# Altium schematic symbol library MCU.SchLib: 4 symbols
Pins are listed as number, name and electrical type; pins without a type are passive.

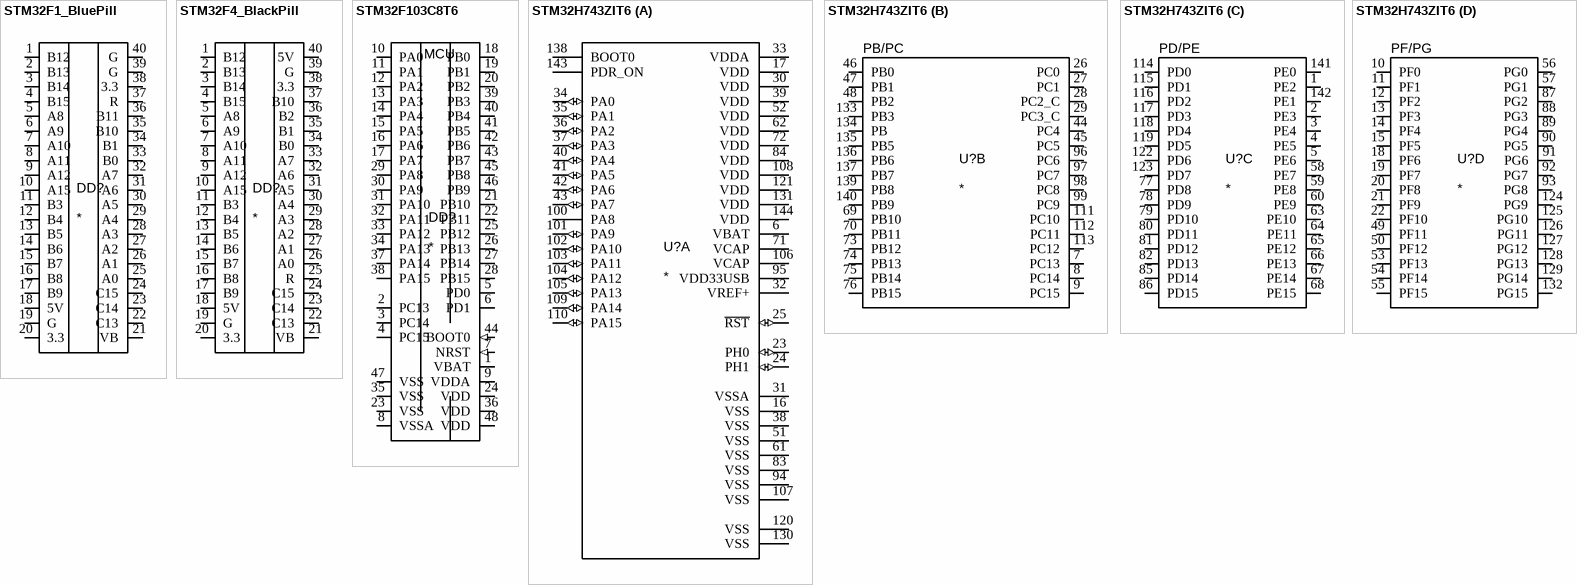
[diagram p0: symbols STM32F1_BluePill to STM32H743ZIT6]

## STM32F1_BluePill
designator DD?
STM32F103C8T6; Value: BluePill; Ед. изм.: шт; Марка и технические характеристики: BluePill; Наименование материалов или оборудования: BluePill
footprint PCB-STM32F103 (Development board STM32F104)
pins: 1 B12, 2 B13, 3 B14, 4 B15, 5 A8, 6 A9, 7 A10, 8 A11, 9 A12, 10 A15, 11 B3, 12 B4, 13 B5, 14 B6, 15 B7, 16 B8, 17 B9, 18 5V, 19 G, 20 3.3, 21 VB, 22 C13, 23 C14, 24 C15, 25 A0, 26 A1, 27 A2, 28 A3, 29 A4, 30 A5, 31 A6, 32 A7, 33 B0, 34 B1, 35 B10, 36 B11, 37 R, 38 3.3, 39 G, 40 G

## STM32F4_BlackPill
designator DD?
STM32F4xx; Value: BlackPill; Ед. изм.: шт; Страна производитель: WeAct; Марка и технические характеристики: BlackPill; Наименование материалов или оборудования: BlackPill
footprint PCB-STM32F411 (Development board STM32F411/401)
pins: 1 B12, 2 B13, 3 B14, 4 B15, 5 A8, 6 A9, 7 A10, 8 A11, 9 A12, 10 A15, 11 B3, 12 B4, 13 B5, 14 B6, 15 B7, 16 B8, 17 B9, 18 5V, 19 G, 20 3.3, 21 VB, 22 C13, 23 C14, 24 C15, 25 R, 26 A0, 27 A1, 28 A2, 29 A3, 30 A4, 31 A5, 32 A6, 33 A7, 34 B0, 35 B1, 36 B2, 37 B10, 38 3.3, 39 G, 40 5V

## STM32F103C8T6
designator DD?
ARM Cortex-M3 STM32F1 Microcontroller IC 32-Bit 72MHz 64KB (64K x 8) FLASH 48-LQFP (7x7); MF: STMicroelectronics; MP: STM32F103C8T6; Package: LQFP-48 STMicroelectronics; Price: None; Check_prices: https://www.snapeda.com/parts/STM32F103C8T6/STMicroelectronics/view-part/?ref=eda; Value: *; SnapEDA_Link: https://www.snapeda.com/parts/STM32F103C8T6/STMicroelectronics/view-part/?ref=snap; Availability: In Stock; Purchase-URL: https://pricing.snapeda.com/search/part/STM32F103C8T6/?ref=eda
footprint QFP50P900X900X160-48N
pins: 1 VBAT (io), 2 PC13 (io), 3 PC14 (io), 4 PC15 (io), 5 PD0 (io), 6 PD1 (io), 7 NRST (in), 8 VSSA (power), 9 VDDA (power), 10 PA0 (io), 11 PA1 (io), 12 PA2 (io), 13 PA3 (io), 14 PA4 (io), 15 PA5 (io), 16 PA6 (io), 17 PA7 (io), 18 PB0 (io), 19 PB1 (io), 20 PB2 (io), 21 PB10 (io), 22 PB11 (io), 23 VSS (power), 24 VDD (power), 25 PB12 (io), 26 PB13 (io), 27 PB14 (io), 28 PB15 (io), 29 PA8 (io), 30 PA9 (io), 31 PA10 (io), 32 PA11 (io), 33 PA12 (io), 34 PA13 (io), 35 VSS (power), 36 VDD (power), 37 PA14 (io), 38 PA15 (io), 39 PB3 (io), 40 PB4 (io), 41 PB5 (io), 42 PB6 (io), 43 PB7 (io), 44 BOOT0 (in), 45 PB8 (io), 46 PB9 (io), 47 VSS (power), 48 VDD (power)
text: MCU

## STM32H743ZIT6
designator U?
ARMCortex-M7 STM32H7 Microcontroller IC 32-Bit Single-Core 480MHz 2MB (2M x 8) FLASH 144-LQFP (20x20); MP: STM32H743ZIT6; MF: STMicroelectronics; Check_prices: https://www.snapeda.com/parts/STM32H743ZIT6/STMicroelectronics/view-part/?ref=eda; Availability: In Stock; SnapEDA_Link: https://www.snapeda.com/parts/STM32H743ZIT6/STMicroelectronics/view-part/?ref=snap; Purchase-URL: https://pricing.snapeda.com/search/part/STM32H743ZIT6/?ref=eda; Price: None; Package: LQFP-144 STMicroelectronics; Value: *
part A pins: 6 VBAT (power), 16 VSS (power), 17 VDD (power), 23 PH0 (io), 24 PH1 (io), 25 ~{RST} (io), 30 VDD (power), 31 VSSA (power), 32 VREF+ (power), 33 VDDA (power), 34 PA0 (io), 35 PA1 (io), 36 PA2 (io), 37 PA3 (io), 38 VSS (power), 39 VDD (power), 40 PA4 (io), 41 PA5 (io), 42 PA6 (io), 43 PA7 (io), 51 VSS (power), 52 VDD (power), 61 VSS (power), 62 VDD (power), 71 VCAP (power), 72 VDD (power), 83 VSS (power), 84 VDD (power), 94 VSS (power), 95 VDD33USB (power), 100 PA8, 101 PA9 (io), 102 PA10 (io), 103 PA11 (io), 104 PA12 (io), 105 PA13 (io), 106 VCAP, 107 VSS, 108 VDD (power), 109 PA14 (io), 110 PA15 (io), 120 VSS (power), 121 VDD (power), 130 VSS (power), 131 VDD (power), 138 BOOT0, 143 PDR_ON, 144 VDD (power)
part B pins: 7 PC13 (io), 8 PC14 (io), 9 PC15 (io), 26 PC0 (io), 27 PC1 (io), 28 PC2_C (io), 29 PC3_C (io), 44 PC4 (io), 45 PC5 (io), 46 PB0 (io), 47 PB1 (io), 48 PB2 (io), 69 PB10 (io), 70 PB11 (io), 73 PB12 (io), 74 PB13 (io), 75 PB14 (io), 76 PB15 (io), 96 PC6 (io), 97 PC7 (io), 98 PC8 (io), 99 PC9 (io), 111 PC10 (io), 112 PC11 (io), 113 PC12 (io), 133 PB3 (io), 134 PB (io), 135 PB5 (io), 136 PB6 (io), 137 PB7 (io), 139 PB8 (io), 140 PB9 (io)
part C pins: 1 PE2, 2 PE3 (io), 3 PE4 (io), 4 PE5 (io), 5 PE6 (io), 58 PE7 (io), 59 PE8 (io), 60 PE9 (io), 63 PE10 (io), 64 PE11 (io), 65 PE12 (io), 66 PE13 (io), 67 PE14 (io), 68 PE15 (io), 77 PD8 (io), 78 PD9 (io), 79 PD10 (io), 80 PD11 (io), 81 PD12 (io), 82 PD13 (io), 85 PD14 (io), 86 PD15 (io), 114 PD0 (io), 115 PD1 (io), 116 PD2 (io), 117 PD3 (io), 118 PD4 (io), 119 PD5 (io), 122 PD6 (io), 123 PD7 (io), 141 PE0 (io), 142 PE1 (io)
part D pins: 10 PF0, 11 PF1 (io), 12 PF2 (io), 13 PF3 (io), 14 PF4 (io), 15 PF5 (io), 18 PF6 (io), 19 PF7 (io), 20 PF8 (io), 21 PF9 (io), 22 PF10 (io), 49 PF11 (io), 50 PF12 (io), 53 PF13 (io), 54 PF14 (io), 55 PF15 (io), 56 PG0 (io), 57 PG1 (io), 87 PG2 (io), 88 PG3 (io), 89 PG4 (io), 90 PG5 (io), 91 PG6, 92 PG7 (io), 93 PG8 (io), 124 PG9 (io), 125 PG10 (io), 126 PG11 (io), 127 PG12 (io), 128 PG13 (io), 129 PG14 (io), 132 PG15 (io)
part B text: PB/PC
part C text: PD/PE
part D text: PF/PG